# EAGLE library part 691307500004 (library Wurth_Elektronik_Electromechanic_Terminal_Blocks_Connectors_rev15c)
WR-TBL Serie 3075 - 5.08mm Reversed Gender Vertiacal PCB Header , 4 pins=>Code : Con_TBL_Pluggable_5.08_PCB_THT_Double_H_691307500004 <http://katalog.we-online.de/media/images/eican/Con_TBL_Pluggable_5.08_PCB_THT_Double_H_6913075000xx_pf2.jpg> Details see: http://katalog.we-online.de/en/em/691_307_500_0xx Created 2014-06-25, Karrer Zheng 2014 (C) Würth Elektronik
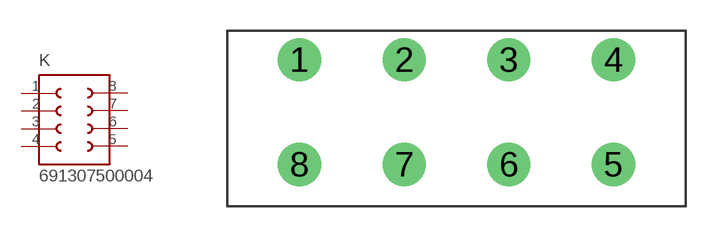
[diagram p172: symbol with the pads of 691307500004; footprint 691307500004]

Designator prefix K

## 691307500004  [691307500004]
1  1  pas
2  2  pas
3  3  pas
4  4  pas
5  5  pas
6  6  pas
7  7  pas
8  8  pas

## Footprint 691307500004 (pad centres in mm)
WR-TBL Serie 3075 - 5.08mm Reversed Gender Vertiacal PCB Header , 4 pins
drill 1.4: 1 -15.24,0; 2 -10.16,0; 3 -5.08,0; 4 0,0; 5 0,-5.08; 6 -5.08,-5.08; 7 -10.16,-5.08; 8 -15.24,-5.08